# EAGLE library part UC2909 (library texas)
Switchmode Lead-Acid Battery Charger
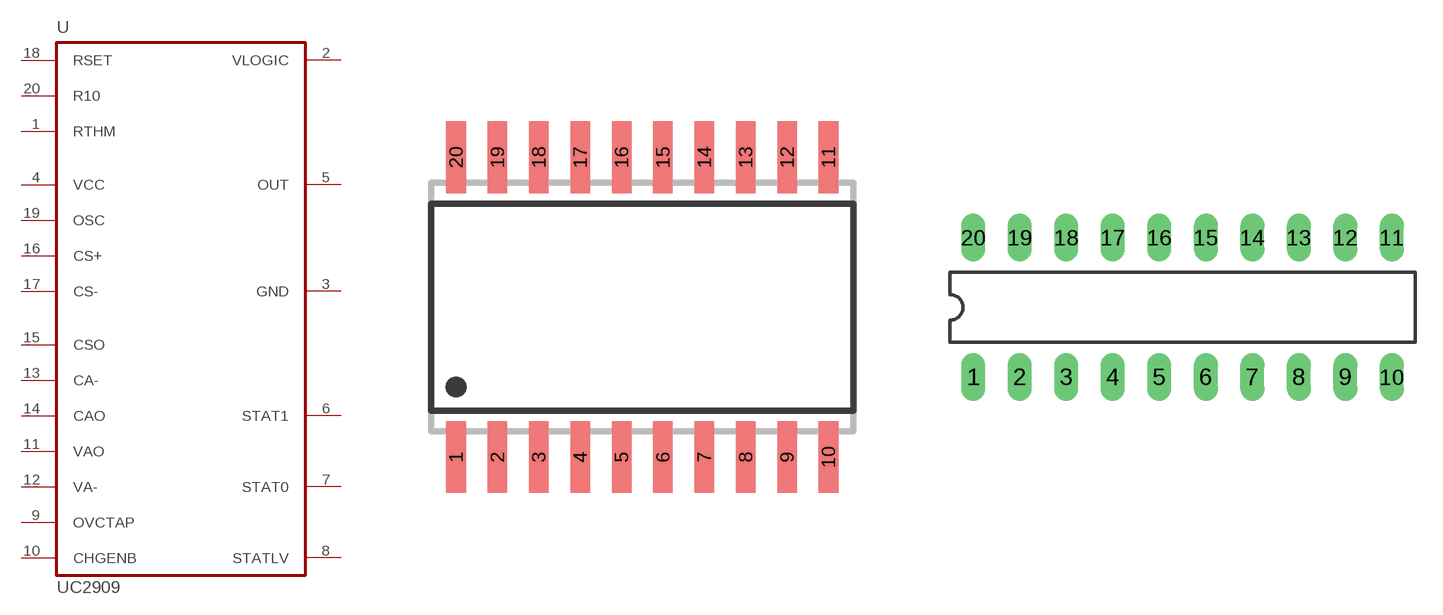
[diagram p34: symbol with the pads of SO20W; footprints SO20W, DIL20]

Designator prefix U

## UC2909DW  [SO20W]
1  RTHM  in
2  VLOGIC  pwr
3  GND  pwr
4  VCC  pwr
5  OUT  oc
6  STAT1  oc
7  STAT0  oc
8  STATLV  oc
9  OVCTAP  in
10  CHGENB  in
11  VAO
12  VA-  in
13  CA-  in
14  CAO  out
15  CSO  out
16  CS+  in
17  CS-  in
18  RSET  in
19  OSC  in
20  R10  in

## UC2909N  [DIL20]
Pads as for SO20W

## Footprint SO20W (pad centres in mm)
SMALL OUTLINE INTEGRATED CIRCUIT wide body 7.5 mm/JEDEC MS-013AC
smd 0.6 x 2.2: 1 -5.715,-4.6; 2 -4.445,-4.6; 3 -3.175,-4.6; 4 -1.905,-4.6; 5 -0.635,-4.6; 6 0.635,-4.6; 7 1.905,-4.6; 8 3.175,-4.6; 9 4.445,-4.6; 10 5.715,-4.6; 11 5.715,4.6; 12 4.445,4.6; 13 3.175,4.6; 14 1.905,4.6; 15 0.635,4.6; 16 -0.635,4.6; 17 -1.905,4.6; 18 -3.175,4.6; 19 -4.445,4.6; 20 -5.715,4.6

## Footprint DIL20 (pad centres in mm)
Dual In Line Package
drill 0.813 long: 1 -11.43,-3.81; 2 -8.89,-3.81; 3 -6.35,-3.81; 4 -3.81,-3.81; 5 -1.27,-3.81; 6 1.27,-3.81; 7 3.81,-3.81; 8 6.35,-3.81; 9 8.89,-3.81; 10 11.43,-3.81; 11 11.43,3.81; 12 8.89,3.81; 13 6.35,3.81; 14 3.81,3.81; 15 1.27,3.81; 16 -1.27,3.81; 17 -3.81,3.81; 18 -6.35,3.81; 19 -8.89,3.81; 20 -11.43,3.81